# Altium schematic symbol library FMC-USB-PHY-PCB_r0.2_release.SCHLIB: 31 symbols
Pins are listed as number, name and electrical type; pins without a type are passive.

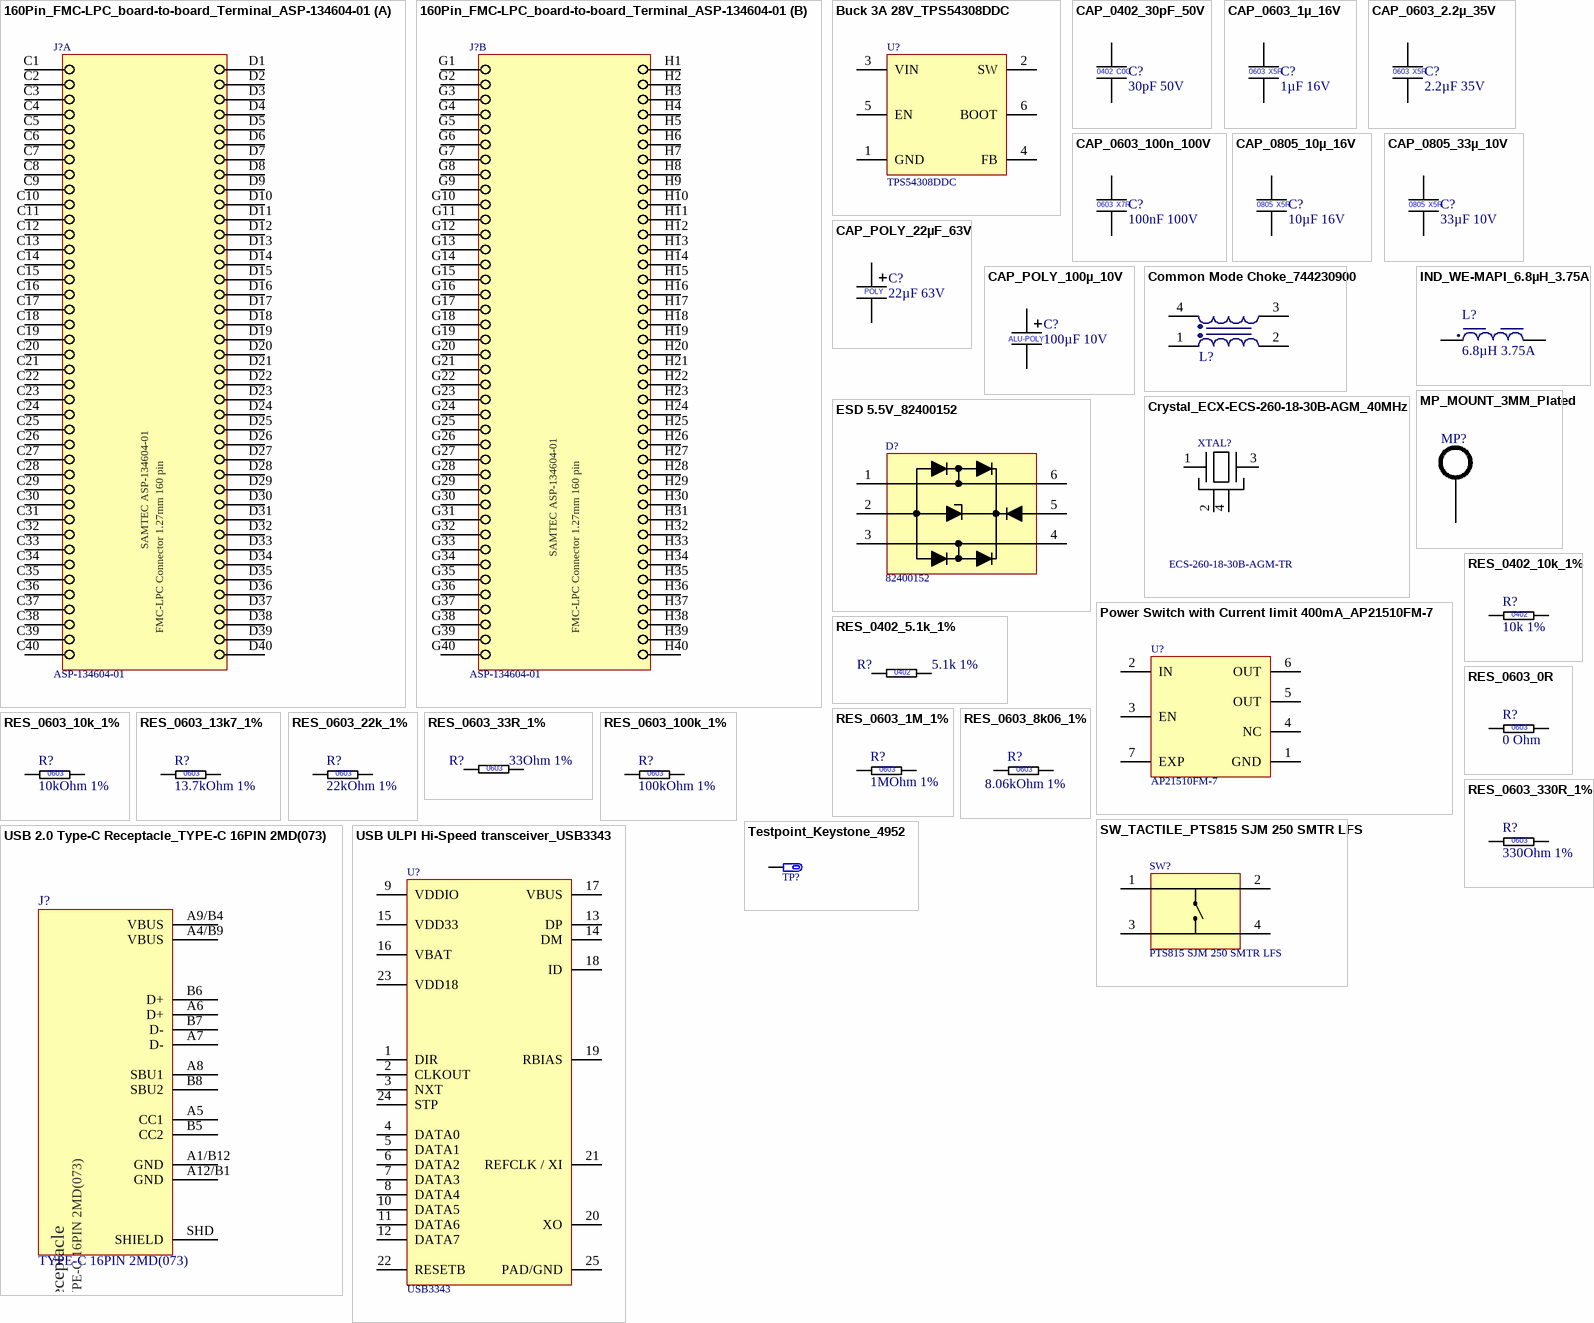
[diagram p0: symbols 160Pin_FMC-LPC_board-to-board_Terminal_ASP-134604-01 to USB ULPI Hi-Speed transceiver_USB3343]

## 160Pin_FMC-LPC_board-to-board_Terminal_ASP-134604-01
designator J?, comment ASP-134604-01
160Pin FMC-LPC board-to-board connector as terminal ASP-134604-01; Manufacturer 1: Samtec; Manufacturer 1 Prt. Nr.: ASP-134604-01
footprint BOARD-TO-BOARD CON SAMTEC_ASP-134604-01
part A pins: C1, C2, C3, C4, C5, C6, C7, C8, C9, C10, C11, C12, C13, C14, C15, C16, C17, C18, C19, C20, C21, C22, C23, C24, C25, C26, C27, C28, C29, C30, C31, C32, C33, C34, C35, C36, C37, C38, C39, C40, D1, D2, D3, D4, D5, D6, D7, D8, D9, D10, D11, D12, D13, D14, D15, D16, D17, D18, D19, D20, D21, D22, D23, D24, D25, D26, D27, D28, D29, D30, D31, D32, D33, D34, D35, D36, D37, D38, D39, D40
part B pins: G1, G2, G3, G4, G5, G6, G7, G8, G9, G10, G11, G12, G13, G14, G15, G16, G17, G18, G19, G20, G21, G22, G23, G24, G25, G26, G27, G28, G29, G30, G31, G32, G33, G34, G35, G36, G37, G38, G39, G40, H1, H2, H3, H4, H5, H6, H7, H8, H9, H10, H11, H12, H13, H14, H15, H16, H17, H18, H19, H20, H21, H22, H23, H24, H25, H26, H27, H28, H29, H30, H31, H32, H33, H34, H35, H36, H37, H38, H39, H40
part A text: SAMTEC ASP-134604-01; FMC-LPC Connector 1.27mm 160 pin
part B text: SAMTEC ASP-134604-01; FMC-LPC Connector 1.27mm 160 pin

## Buck 3A 28V_TPS54308DDC
designator U?, comment TPS54308DDC  (no BOM)
4.5-V to 28-V Input, 3-A Output, Synchronous 350-kHz FCCM Step-Down Converter in SOT23 Package; Manufacturer 1: Texas Instruments; Manufacturer 1 Prt. Nr.: TPS54308DDC
footprint SOT95P280X110-6N (SOT23, 6-Leads, Body 2,90x2,80mm, Pitch 0,95mm, IPC Medium Density)
pins: 1 GND, 2 SW, 3 VIN, 4 FB, 5 EN, 6 BOOT

## CAP_0402_30pF_50V
designator C?, comment 30pF 50V
Multilayer Ceramic Capacitors MLCC - SMD/SMT 0402 50VDC; Manufacturer 1: KYOCERA AVX; Manufacturer 1 Prt. Nr.: KGQ05FCG1H300JH; Manufacturer 2 Prt. Nr.: C0402C300F5GACTU; Manufacturer 2: KEMET
footprint CAPC1005X06L (Chip Capacitor, 2-Leads, Body 1,00x0,50mm, IPC High Density)
pins: 1, 2
text: 0402; C0G

## CAP_0603_1µ_16V
designator C?, comment 1µF 16V
Multilayer Ceramic Capacitors MLCC - SMD/SMT 0603 16VDC; Manufacturer 1: Samsung Electro-Mechanics; Manufacturer 1 Prt. Nr.: CL10A105KO8NNND; Manufacturer 2 Prt. Nr.: MCASE168SB7105KTNA01; Manufacturer 2: Taiyo Yuden
footprint CAPC1608X10L (Chip Capacitor, 2-Leads, Body 1,60x0,80mm, IPC High Density)
pins: 1, 2
text: 0603; X5R

## CAP_0603_2.2µ_35V
designator C?, comment 2.2µF 35V  (no BOM)
Multilayer Ceramic Capacitors MLCC - SMD/SMT 0603 35VDC; Manufacturer 1: TDK; Manufacturer 1 Prt. Nr.: C1608X5R1V225K080AC; Manufacturer 2 Prt. Nr.: GRT188R6YA225KE13J; Manufacturer 2: Murata Electronics
footprint CAPC1608X10L (Chip Capacitor, 2-Leads, Body 1,60x0,80mm, IPC High Density)
pins: 1, 2
text: 0603; X5R

## CAP_0603_100n_100V
designator C?, comment 100nF 100V  (no BOM)
Multilayer Ceramic Capacitors MLCC - SMD/SMT 0603 100VDC; Manufacturer 1: Samsung Electro-Mechanics; Manufacturer 1 Prt. Nr.: CL10B104KC8NNNC; Manufacturer 2 Prt. Nr.: HMK107B7104KA-T; Manufacturer 2: Taiyo Yuden
footprint CAPC1608X10L (Chip Capacitor, 2-Leads, Body 1,60x0,80mm, IPC High Density)
pins: 1, 2
text: 0603; X7R

## CAP_0805_10µ_16V
designator C?, comment 10µF 16V  (no BOM)
Multilayer Ceramic Capacitors MLCC - SMD/SMT 0603 25VDC; Manufacturer 1: Samsung Electro-Mechanics; Manufacturer 1 Prt. Nr.: CL21A106KOQNNNG; Manufacturer 2 Prt. Nr.: C0805C106K8PAC7210; Manufacturer 2: KEMET
footprint CAPC2012X14L (Chip Capacitor, 2-Leads, Body 2,00x1,25mm, IPC High Density)
pins: 1, 2
text: 0805; X5R

## CAP_0805_33µ_10V
designator C?, comment 33µF 10V  (no BOM)
Multilayer Ceramic Capacitors MLCC - SMD/SMT 0805 10VDC; Manufacturer 1: TDK; Manufacturer 1 Prt. Nr.: C2012X5R1A336M125AC; Manufacturer 2: TDK; Manufacturer 2 Prt. Nr.: C2012X5R1A336M125AC
footprint CAPC2012X14L (Chip Capacitor, 2-Leads, Body 2,00x1,25mm, IPC High Density)
pins: 1, 2
text: 0805; X5R

## CAP_POLY_22µF_63V
designator C?, comment 22µF 63V  (no BOM)
Aluminium Organic Polymer Capacitors 63V 22uF 125C 20% ESR=54mOhms; Manufacturer 1: KEMET; Manufacturer Prt. Nr. 1: A768KE226M1JLAE054
footprint CAPAE9083X70N (Aluminum Electrolytic Capacitor, Body 8,30x8,30x7,00mm, IPC Medium Density)
pins: 1, 2
text: POLY

## CAP_POLY_100µ_10V
designator C?, comment 100µF 10V  (no BOM)
Aluminium-Polymer capacitor  radial 10VDC; Manufacturer 1: KEMET; Manufacturer 1 Prt. Nr.: A750BK107M1AAAE024
footprint CAP_Radial_5x8mm (Radial_5x8mm)
pins: 1, 2
text: ALU-POLY

## Common Mode Choke_744230900
designator L?, comment 90Ohm 100mA  (value not drawn)
WE-CNSW SMT Common Mode / Line Filter; Manufacturer 1: Würth Elektronik; Manufacturer 1 Prt. Nr.: 744230900
footprint WE-CNSW_0603 (SMT Common Mode Line Filter, 4-leads, body 1.60x0.85mm)
pins: 1, 2, 3, 4

## Crystal_ECX-ECS-260-18-30B-AGM_40MHz
designator XTAL?, comment ECS-260-18-30B-AGM-TR
SMD Crystal 26 MHz 18pF; Manufacturer 1: ECS; Manufacturer 1 Prt. Nr.: ECS-260-18-30B-AGM-TR
footprint XTAL_ECX-53B_5X3.2X0.85 (The ECX-53B is a miniature SMD Crystal with a 3.2 x 5 mm footprint. This package is ideal for todays compact wireless applications where board space is critical.)
pins: 1, 2, 3, 4

## ESD 5.5V_82400152
designator D?, comment 82400152
WE-TVS TVS Diode – High Speed / Series; Manufacturer 1: Würth Elektronik; Manufacturer 1 Prt. Nr.: 82400152
footprint WE-TVS_SOT563 (TVS Diode, package SOT563)
pins: 1 I/O 1, 2 GND, 3 I/O 2, 4 I/O 2, 5 VDD, 6 I/O 1

## IND_WE-MAPI_6.8µH_3.75A
designator L?, comment 6.8µH 3.75A  (no BOM)
WE-MAPI SMT Power Inductor shielded; Manufacturer 1 Prt. Nr.: Würth Elektronik; Manufacturer 1: 74438357068
footprint WE-MAPI_4030 (SMT Shielded Power Inductor, body 4.10 x 4.10 mm)
pins: 1, 2

## MP_MOUNT_3MM_Plated
designator MP?  (value not drawn)  (no BOM)
Mounting hole with 1 mm radius
footprint MP_3MM_Plated (Mounting hole with 3mm hole diameter)
pins: 1

## Power Switch with Current limit 400mA_AP21510FM-7
designator U?, comment AP21510FM-7  (no BOM)
Power switch with 400mA Current limit up to 5.5V Input; Manufacturer 1: Diodes Incorporated; Manufacturer 1 Prt. Nr.: AP21510FM-7
footprint QFN50P201X181X60_HS-7N (QFN, 6-Leads, Body 2,01x1,81mm, Pitch 0,50mm, Thermal Pad 1,00x1,40mm, IPC Medium Density)
pins: 1 GND, 2 IN, 3 EN, 4 NC, 5 OUT, 6 OUT, 7 EXP

## RES_0402_5.1k_1%
designator R?, comment 5.1k 1%
Thick Film Resistors - SMD 5.1k 1%; Manufacturer 1: Vishay / Dale; Manufacturer 1 Prt. Nr.: CRCW04025K10FKEDC; Manufacturer 2 Prt. Nr.: RC0402FR-075K1L; Manufacturer 2: Yageo
footprint RESC1005X04L (Chip Resistor, 2-Leads, Body 1,00x0,53mm, IPC High Density)
pins: 1, 2
text: 0402

## RES_0402_10k_1%
designator R?, comment 10k 1%
Thick Film Resistors - SMD 10k 1%; Manufacturer 1: Vishay / Dale; Manufacturer 1 Prt. Nr.: CRCW040210K0FKEDC; Manufacturer 2 Prt. Nr.: RT0402FRE0710KL; Manufacturer 2: YAGEO
footprint RESC1005X04L (Chip Resistor, 2-Leads, Body 1,00x0,53mm, IPC High Density)
pins: 1, 2
text: 0402

## RES_0603_0R
designator R?, comment 0 Ohm  (no BOM)
Thick Film Resistors - SMD 0 Ohm; Manufacturer 1: Panasonic; Manufacturer 1 Prt. Nr.: ERJ-3GEY0R00V; Manufacturer 2 Prt. Nr.: CRCW06030000Z0EAHP; Manufacturer 2: Vishay / Dale
footprint RESC1608X04L (Chip Resistor, 2-Leads, Body 1,60x0,80mm, IPC High Density)
pins: 1, 2
text: 0603

## RES_0603_1M_1%
designator R?, comment 1MOhm 1%
Thick Film Resistors - SMD 1MOHM 1%; Manufacturer 1: Bourns; Manufacturer 1 Prt. Nr.: CR0603-FX-1004ELF; Manufacturer 2 Prt. Nr.: RCC06031M00FKEA; Manufacturer 2: Vishay / Dale
footprint RESC1608X04L (Chip Resistor, 2-Leads, Body 1,60x0,80mm, IPC High Density)
pins: 1, 2
text: 0603

## RES_0603_8k06_1%
designator R?, comment 8.06kOhm 1%
Thick Film Resistors - SMD 8.06kOHM 1%; Manufacturer 1: Bourns; Manufacturer 1 Prt. Nr.: CR0603-FX-8061ELF; Manufacturer 2 Prt. Nr.: CRCW06038K06FKEA; Manufacturer 2: Vishay / Dale
footprint RESC1608X04L (Chip Resistor, 2-Leads, Body 1,60x0,80mm, IPC High Density)
pins: 1, 2
text: 0603

## RES_0603_10k_1%
designator R?, comment 10kOhm 1%  (no BOM)
Thick Film Resistors - SMD 10kOHM 1%; Manufacturer 1: Yageo; Manufacturer 1 Prt. Nr.: AF0603FR-0710KL; Manufacturer 2 Prt. Nr.: CRCW060310K0FKEB; Manufacturer 2: Vishay / Dale
footprint RESC1608X04L (Chip Resistor, 2-Leads, Body 1,60x0,80mm, IPC High Density)
pins: 1, 2
text: 0603

## RES_0603_13k7_1%
designator R?, comment 13.7kOhm 1%  (no BOM)
Thick Film Resistors - SMD 13.7kOHM 1%; Manufacturer 1: Vishay / Dale; Manufacturer 1 Prt. Nr.: CRCW060313K7FKEA; Manufacturer 2 Prt. Nr.: CR0603-FX-1372ELF; Manufacturer 2: Bourns
footprint RESC1608X04L (Chip Resistor, 2-Leads, Body 1,60x0,80mm, IPC High Density)
pins: 1, 2
text: 0603

## RES_0603_22k_1%
designator R?, comment 22kOhm 1%  (no BOM)
Thick Film Resistors - SMD 22kOHM 1%; Manufacturer 1: Yageo; Manufacturer 1 Prt. Nr.: AC0603FR-0722KL; Manufacturer 2 Prt. Nr.: CRCW060322K0FKEA; Manufacturer 2: Vishay / Dale
footprint RESC1608X04L (Chip Resistor, 2-Leads, Body 1,60x0,80mm, IPC High Density)
pins: 1, 2
text: 0603

## RES_0603_33R_1%
designator R?, comment 33Ohm 1%
Thick Film Resistors - SMD 33OHM 1%; Manufacturer 1: YAGEO; Manufacturer 1 Prt. Nr.: RC0603FR-7W33RL; Manufacturer 2 Prt. Nr.: CR0603AFX-33R0EAS; Manufacturer 2: Bourns
footprint RESC1608X04L (Chip Resistor, 2-Leads, Body 1,60x0,80mm, IPC High Density)
pins: 1, 2
text: 0603

## RES_0603_100k_1%
designator R?, comment 100kOhm 1%  (no BOM)
Thick Film Resistors - SMD 100kOHM 1%; Manufacturer 1: Yageo; Manufacturer 1 Prt. Nr.: RC0603FR-10100KL; Manufacturer 2 Prt. Nr.: CRGH0603J100K; Manufacturer 2: TE Connectivity / Holsworthy
footprint RESC1608X04L (Chip Resistor, 2-Leads, Body 1,60x0,80mm, IPC High Density)
pins: 1, 2
text: 0603

## RES_0603_330R_1%
designator R?, comment 330Ohm 1%
Thick Film Resistors - SMD 330OHM 1%; Manufacturer 1: Yageo; Manufacturer 1 Prt. Nr.: RC0603FR-10330RL; Manufacturer 2 Prt. Nr.: WCR0603-330RFI; Manufacturer 2: Welwyn Components / TT Electronics
footprint RESC1608X04L (Chip Resistor, 2-Leads, Body 1,60x0,80mm, IPC High Density)
pins: 1, 2
text: 0603

## SW_TACTILE_PTS815 SJM 250 SMTR LFS
designator SW?, comment PTS815 SJM 250 SMTR LFS
SMD Switch Tactile SMD 4,20mm x 3,20mm; Manufacturer 1: C&K; Manufacturer 1 Prt. Nr.: PTS815 SJM 250 SMTR LFS
footprint SW_TACT_PTS815 SJM 250 SMTR LFS (PTS815 SJM 250 SMTR LFS)
pins: 1, 2, 3 1, 4 2

## Testpoint_Keystone_4952
designator TP?, comment 4952  (value not drawn)
Loop Type THM Test Point P/N 4952; Manufacturer 1: Keystone; Manufacturer 1 Prt. Nr.: 4952
footprint TP_Keystone_4952 (Loop Type THM Test Point P/N 4952)
pins: TP

## USB 2.0 Type-C Receptacle_TYPE-C 16PIN 2MD(073)
designator J?, comment TYPE-C 16PIN 2MD(073)
USB 2.0 C Receptacle Horizontal 16P; Manufacturer 1: SHOU HAN; Manufacturer 1 Prt. Nr.: TYPE-C 16PIN 2MD(073)
footprint USB Type C - TYPE-C 16PIN 2MD(073) (USB Type-C 2.0 Horizontal Connector)
pins: A1/B12 GND, A4/B9 VBUS, A5 CC1, A6 D+, A7 D-, A8 SBU1, A9/B4 VBUS, A12/B1 GND, B5 CC2, B6 D+, B7 D-, B8 SBU2, SHD SHIELD
text: USB 2.0 Type-C Shielded Receptacle

## USB ULPI Hi-Speed transceiver_USB3343
designator U?, comment USB3343
26Mhz USB 2.0 ULPI PHY IC with Variable I/O voltage; Manufacturer 1: Microchip; Manufacturer 1 Prt. Nr.: USB3343
footprint QFN50P400X400X100_HS-25M (QFN, 24-Leads, Body 4,00x4,00mm, Pitch 0,50mm, Thermal Pad 0,30x0,85mm, IPC Low Density)
pins: 1 DIR, 2 CLKOUT, 3 NXT, 4 DATA0, 5 DATA1, 6 DATA2, 7 DATA3, 8 DATA4, 9 VDDIO, 10 DATA5, 11 DATA6, 12 DATA7, 13 DP, 14 DM, 15 VDD33, 16 VBAT, 17 VBUS, 18 ID, 19 RBIAS, 20 XO, 21 REFCLK / XI, 22 RESETB, 23 VDD18, 24 STP, 25 PAD/GND